# EAGLE library part MAX807LSO (library maxim)
WATCHDOG
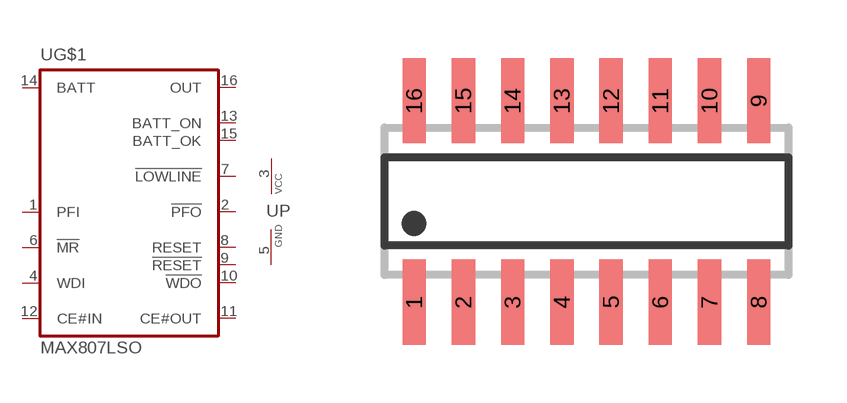
[diagram p371: symbol with the pads of SO16; footprint SO16]

Designator prefix U; gates G$1=MAX807 P=VCC-GND

## MAX807LSO  [SO16]
1  G$1:PFI  in
2  G$1:!PFO!  out
3  P:VCC  pwr
4  G$1:WDI  in
5  P:GND  pwr
6  G$1:!MR!  in
7  G$1:!LOWLINE!  out
8  G$1:RESET  out
9  G$1:!RESET!  out
10  G$1:!WDO!  out
11  G$1:CE#OUT  out
12  G$1:CE#IN  in
13  G$1:BATT_ON  out
14  G$1:BATT  in
15  G$1:BATT_OK  out
16  G$1:OUT  out

## Footprint SO16 (pad centres in mm)
SMALL OUTLINE INTEGRATED CIRCUIT body 3.9 mm/JEDEC MS-012AC
smd 0.6 x 2.2: 1 -4.445,-2.6; 2 -3.175,-2.6; 3 -1.905,-2.6; 4 -0.635,-2.6; 5 0.635,-2.6; 6 1.905,-2.6; 7 3.175,-2.6; 8 4.445,-2.6; 9 4.445,2.6; 10 3.175,2.6; 11 1.905,2.6; 12 0.635,2.6; 13 -0.635,2.6; 14 -1.905,2.6; 15 -3.175,2.6; 16 -4.445,2.6